# EAGLE library part MCP6009 (library Public)
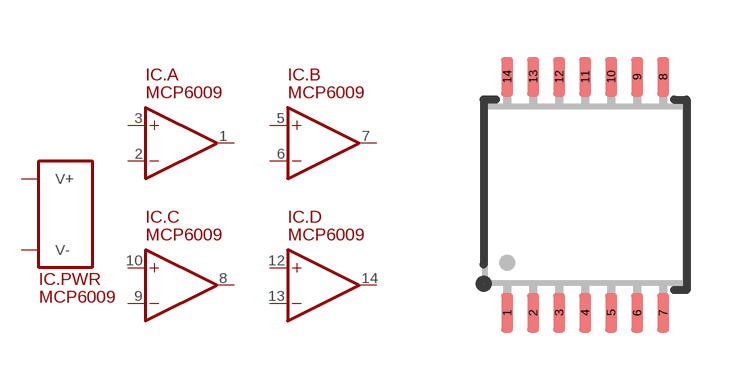
[diagram p231: symbol with the pads of TSSOP14; footprint TSSOP14]

Designator prefix IC; gates .PWR=SUPPLY_V+/V- .A=OP .B=OP .C=OP .D=OP

## MCP6009 (ID: MCP6009-E/ST)  [TSSOP14]
1  .A:OUT
2  .A:-IN
3  .A:+IN
4  .PWR:V+
5  .B:+IN
6  .B:-IN
7  .B:OUT
8  .C:OUT
9  .C:-IN
10  .C:+IN
11  .PWR:V-
12  .D:+IN
13  .D:-IN
14  .D:OUT

## Footprint TSSOP14 (pad centres in mm)
smd 0.305 x 0.991: 1 -1.95,-2.95; 2 -1.3,-2.95; 3 -0.65,-2.95; 4 0,-2.95; 5 0.65,-2.95; 6 1.3,-2.95; 7 1.95,-2.95; 8 1.95,2.95; 9 1.3,2.95; 10 0.65,2.95; 11 0,2.95; 12 -0.65,2.95; 13 -1.3,2.95; 14 -1.95,2.95